# EAGLE library part DA14580-01A32 (library DA14580-01A32)
DA14580 Series Bluetooth Smart (4.0 and 4.1) System-on-Chip - QFN-48 Check prices <https://pricing.snapeda.com/parts/DA14580-01A32/Dialog%20Semiconductor/view-part?ref=eda>
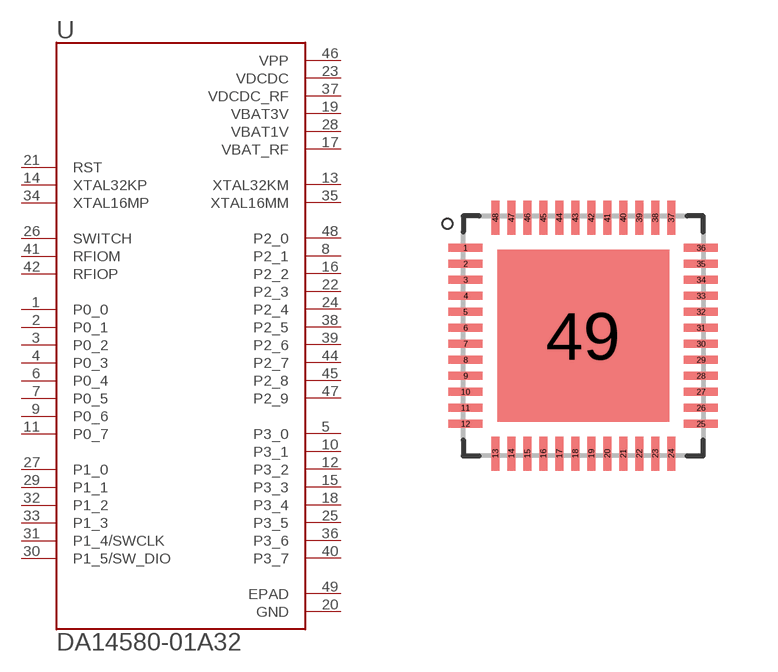
[diagram p0: symbol with the pads of QFN40P600X600X90-49N; footprint QFN40P600X600X90-49N]

Designator prefix U

## DA14580-01A32 (Availability: Not in stock; Description: IC RF TxRx + MCU Bluetooth Bluetooth v4.1 2.4GHz 48-VFQFN Exposed Pad; MF: Dialog Semiconductor; MP: DA14580-01A32; Package: VFQFN-48 Dialog Semiconductor; Price: None)  [QFN40P600X600X90-49N]
1  P0_0
2  P0_1
3  P0_2
4  P0_3
5  P3_0
6  P0_4
7  P0_5
8  P2_1
9  P0_6
10  P3_1
11  P0_7
12  P3_2
13  XTAL32KM  out
14  XTAL32KP  in
15  P3_3
16  P2_2
17  VBAT_RF  pwr
18  P3_4
19  VBAT3V  pwr
20  GND  pwr
21  RST  in
22  P2_3
23  VDCDC  pwr
24  P2_4
25  P3_5
26  SWITCH
27  P1_0
28  VBAT1V  pwr
29  P1_1
30  P1_5/SW_DIO
31  P1_4/SWCLK
32  P1_2
33  P1_3
34  XTAL16MP  in
35  XTAL16MM  out
36  P3_6
37  VDCDC_RF  pwr
38  P2_5
39  P2_6
40  P3_7
41  RFIOM
42  RFIOP
44  P2_7
45  P2_8
46  VPP  pwr
47  P2_9
48  P2_0
49  EPAD  pas

## Footprint QFN40P600X600X90-49N (pad centres in mm)
smd 0.85 x 0.2: 1 -2.945,2.2; 2 -2.945,1.8; 3 -2.945,1.4; 4 -2.945,1; 5 -2.945,0.6; 6 -2.945,0.2; 7 -2.945,-0.2; 8 -2.945,-0.6; 9 -2.945,-1; 10 -2.945,-1.4; 11 -2.945,-1.8; 12 -2.945,-2.2; 25 2.945,-2.2; 26 2.945,-1.8; 27 2.945,-1.4; 28 2.945,-1; 29 2.945,-0.6; 30 2.945,-0.2; 31 2.945,0.2; 32 2.945,0.6; 33 2.945,1; 34 2.945,1.4; 35 2.945,1.8; 36 2.945,2.2
smd 0.2 x 0.85: 13 -2.2,-2.945; 14 -1.8,-2.945; 15 -1.4,-2.945; 16 -1,-2.945; 17 -0.6,-2.945; 18 -0.2,-2.945; 19 0.2,-2.945; 20 0.6,-2.945; 21 1,-2.945; 22 1.4,-2.945; 23 1.8,-2.945; 24 2.2,-2.945; 37 2.2,2.945; 38 1.8,2.945; 39 1.4,2.945; 40 1,2.945; 41 0.6,2.945; 42 0.2,2.945; 43 -0.2,2.945; 44 -0.6,2.945; 45 -1,2.945; 46 -1.4,2.945; 47 -1.8,2.945; 48 -2.2,2.945
smd 4.3 x 4.3: 49 0,0